# Altium schematic symbol library PCBconFe.SchLib: 1 symbol
Pins are listed as number, name and electrical type; pins without a type are passive.

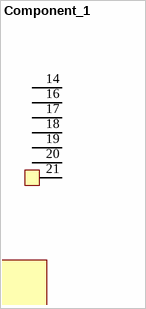
[diagram p0: symbol Component_1]

## Component_1
designator *
pins: 14, 16, 17, 18, 19, 20, 21